# EAGLE library part BLUESENSOR (library Mini-Q)
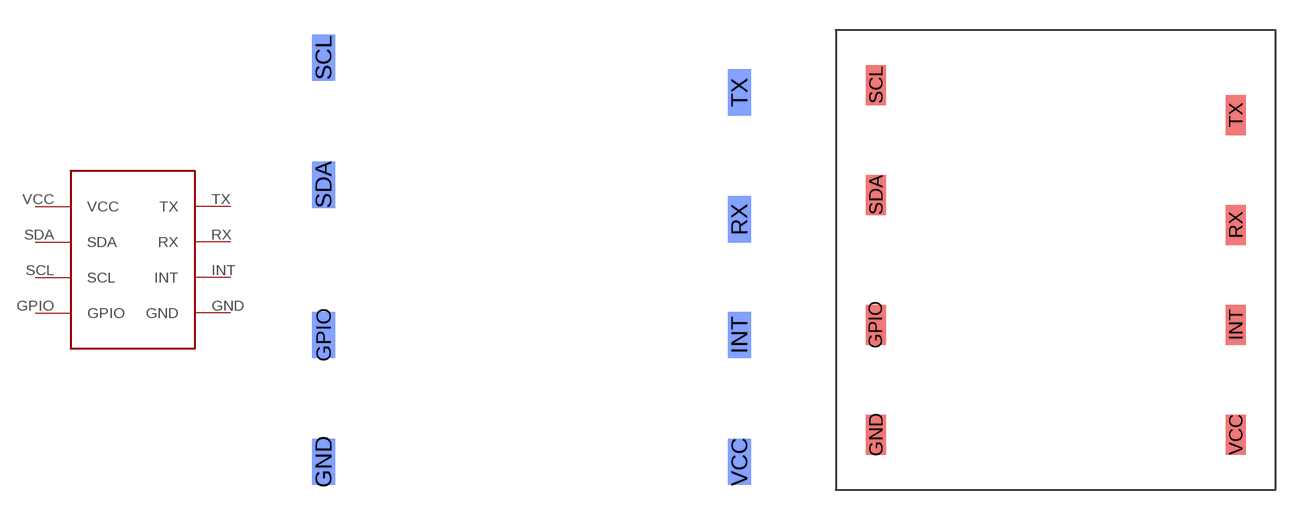
[diagram p1: symbol with the pads of BLUESENSOR-BOARD; footprints BLUESENSOR-BOARD, BLUESENSOR-HOLDER]

Designator prefix -

## BLUESENSORBOARD  [BLUESENSOR-BOARD]
GND  GND
GPIO  GPIO
INT  INT
RX  RX
SCL  SCL
SDA  SDA
TX  TX
VCC  VCC

## BLUESENSORHOLDER  [BLUESENSOR-HOLDER]
Pads as for BLUESENSOR-BOARD

## Footprint BLUESENSOR-BOARD (pad centres in mm)
smd 1 x 2 bottom: GND -9,-8.75; GPIO -9,-3.25; INT 9,-3.25; RX 9,1.75; SCL -9,8.75; SDA -9,3.25; TX 9,7.25; VCC 9,-8.75

## Footprint BLUESENSOR-HOLDER (pad centres in mm)
smd 1 x 2: GND -9,-8.75; GPIO -9,-3.25; INT 9,-3.25; RX 9,1.75; SCL -9,8.75; SDA -9,3.25; TX 9,7.25; VCC 9,-8.75